# Altium footprint library Supervisor.PcbLib: 3 footprints
Each footprint in its own frame and in the unit in brackets; x right, y up, seen from the top. Pads: shape width x height; smd on the part's side, far side on the other; paste and mask are expansions set on the pad; w line width, h text height; cw(c..) or ccw(c..) is an arc to the next point about the centre after c.
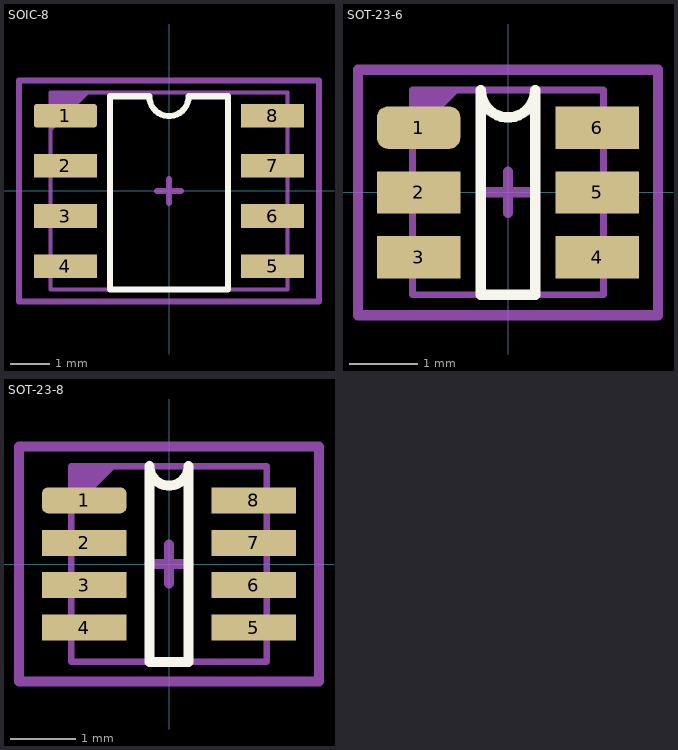
[diagram p0: the footprints below, top view; thin cyan lines are the x and y axes]

## SOIC-8 [mm]
pads (8):
  rrect25% 1.6x0.6 smd: 1(-2.625,1.905)
  rect 1.6x0.6 smd: 2(-2.625,0.635) 3(-2.625,-0.635) 4(-2.625,-1.905) 5(2.625,-1.905) 6(2.625,-0.635) 7(2.625,0.635) 8(2.625,1.905)
Top Overlay:
  lines w0.153: -1.5,-2.5 1.5,-2.5 1.5,2.4 0.5,2.4 cw(c0,2.4) -0.5,2.4 -1.5,2.4 -1.5,-2.5
Top Assembly:
  region: -3,2.5 -3,1.5 -2,2.5
  lines w0.1: -3,-2.5 -3,2.5 3,2.5 3,-2.5 -3,-2.5
  text "'.Designator'" at -4.532,-0.333 h0.8
Top Courtyard:
  lines w0.153: -0.3,0 0.3,0 ; 0,-0.3 0,0.3 ; -3.8,-2.8 3.8,-2.8 3.8,2.8 -3.8,2.8 -3.8,-2.8
3D body "step_temp.STEP": height 1.75, standoff 0, extent -3,-2.45 3,2.45

## SOT-23-6 [mm]
pads (6):
  rrect50% 1.22x0.62 smd: 1(-1.31,0.95)
  rect 1.22x0.62 smd: 2(-1.31,0) 3(-1.31,-0.95) 4(1.31,-0.95) 5(1.31,0) 6(1.31,0.95)
Top Overlay:
  lines w0.153: -0.4,-1.5 -0.4,1.5 ccw(c0,1.5) 0.4,1.5 0.4,-1.5 -0.4,-1.5
Top Assembly:
  region: -0.7,1.5 -1.4,0.8 -1.4,1.5
  lines w0.1: -1.4,-1.5 -1.4,1.5 1.4,1.5 1.4,-1.5 -1.4,-1.5
  text "'.Designator'" at -4.532,-0.333 h0.8
Top Courtyard:
  lines w0.153: -0.3,0 0.3,0 ; 0,-0.3 0,0.3 ; -2.2,-1.8 2.2,-1.8 2.2,1.8 -2.2,1.8 -2.2,-1.8
3D body "User Library-TSOT-23.STEP": height 0.86, standoff 0, extent -1.405,-1.5 1.405,1.5

## SOT-23-8 [mm]
pads (8):
  rrect50% 1.3x0.4 smd: 1(-1.3,0.975)
  rect 1.3x0.4 smd: 2(-1.3,0.325) 3(-1.3,-0.325) 4(-1.3,-0.975) 5(1.3,-0.975) 6(1.3,-0.325) 7(1.3,0.325) 8(1.3,0.975)
Top Overlay:
  lines w0.153: -0.3,-1.5 -0.3,1.5 ccw(c0,1.5) 0.3,1.5 0.3,-1.5 -0.3,-1.5
Top Assembly:
  region: -1.5,1.5 -0.8,1.5 -1.5,0.8
  lines w0.1: -1.5,-1.5 -1.5,1.5 1.5,1.5 1.5,-1.5 -1.5,-1.5
  text "'.Designator'" at -4.532,-0.333 h0.8
Top Courtyard:
  lines w0.153: -0.3,0 0.3,0 ; 0,-0.3 0,0.3 ; -2.3,-1.8 -2.3,1.8 2.3,1.8 2.3,-1.8 -2.3,-1.8
3D body "sot23-8_p0-65_l3-0_w1-7.stp": height 1.44, standoff -0.01, extent -1.5,-1.5 1.5,1.5